# EAGLE library part STD043F18X1 (library con-pinheader-standard)
female standard header 2mm, 4.3mm height
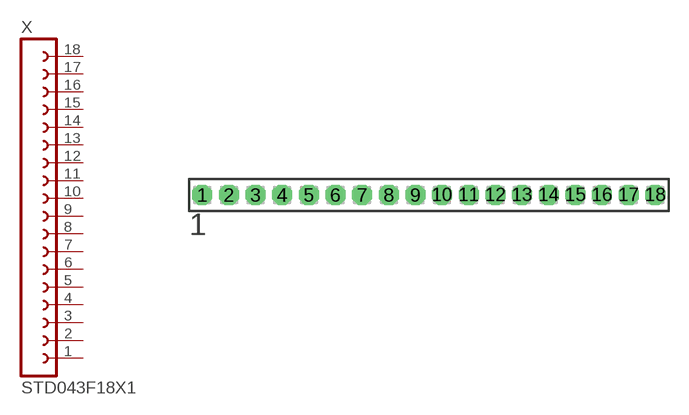
[diagram p12: symbol with the pads of STD043F18X1-2.00; footprint STD043F18X1-2.00]

Designator prefix X

## STD043F18X1-2.00MM (OC_FARNELL: unknown; OC_NEWARK: unknown)  [STD043F18X1-2.00]
1  1  pas
2  2  pas
3  3  pas
4  4  pas
5  5  pas
6  6  pas
7  7  pas
8  8  pas
9  9  pas
10  10  pas
11  11  pas
12  12  pas
13  13  pas
14  14  pas
15  15  pas
16  16  pas
17  17  pas
18  18  pas

## Footprint STD043F18X1-2.00 (pad centres in mm)
female standard header 2mm, 4.3mm height
drill 0.8 pad 1.5 octagon: 1 -17,0; 2 -15,0; 3 -13,0; 4 -11,0; 5 -9,0; 6 -7,0; 7 -5,0; 8 -3,0; 9 -1,0; 10 1,0; 11 3,0; 12 5,0; 13 7,0; 14 9,0; 15 11,0; 16 13,0; 17 15,0; 18 17,0